# Altium schematic symbol library usomiq-audio.SchLib: 13 symbols
Pins are listed as number, name and electrical type; pins without a type are passive.

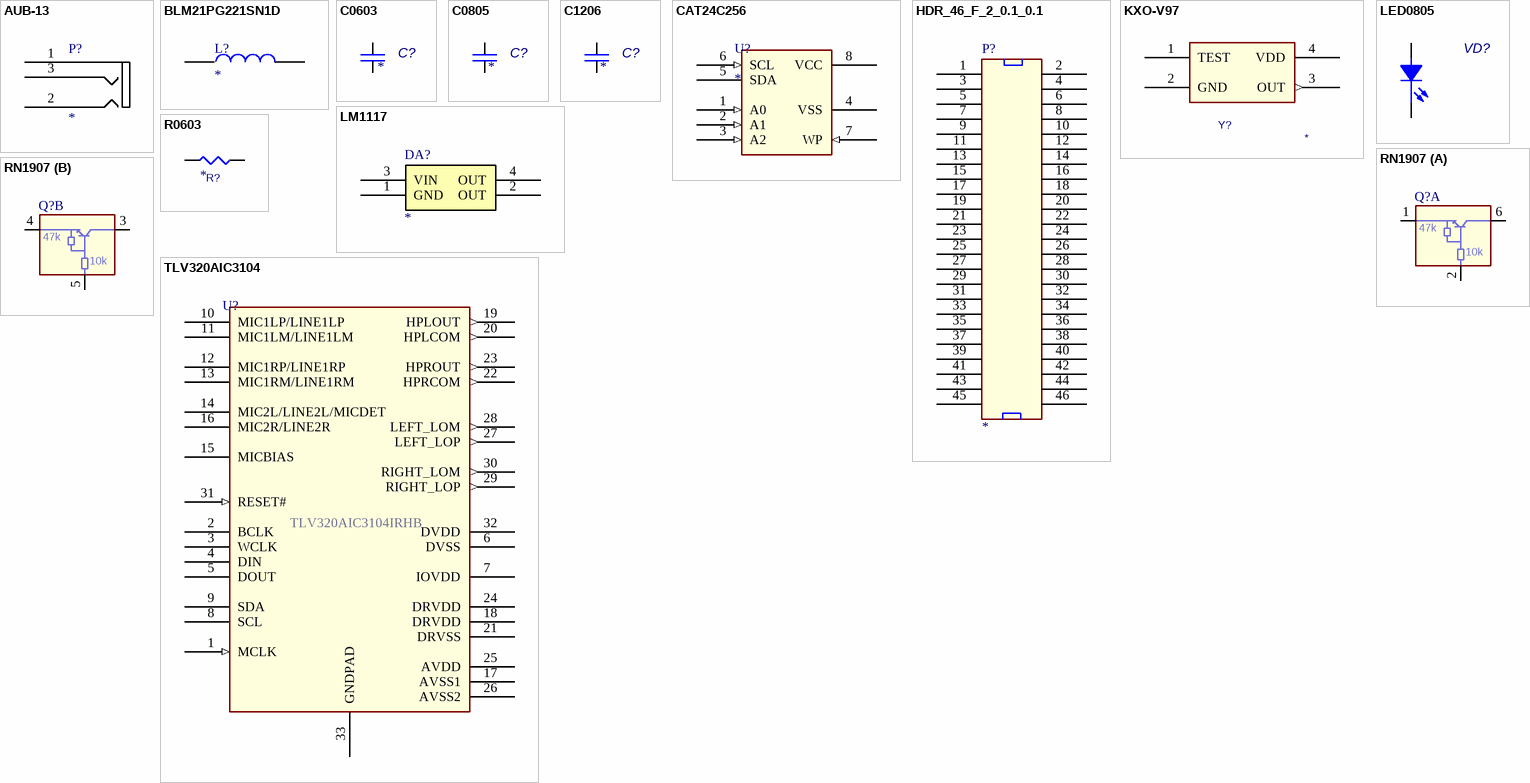
[diagram p0: symbols AUB-13 to TLV320AIC3104]

## AUB-13
designator P?
Audio connector mini-jack 3.5mm, 3 pins; Vendor: brownbear.ru
footprint AUB_13 (3.5mm audio jack, PTH on pcb, 3 contacts)
pins: 1 GND, 2 RIGHT, 3 LEFT

## BLM21PG221SN1D
designator L?
BLM21PG221SN1D; Manufacturer: Murata; Man P/N: BLM21PG221SN1D
footprint Chip2PinSM127P600-8N
pins: 1, 2

## C0603
designator C?
C0603; P/N: *; Value: *
footprint CC1608-0603 (Chip Capacitor, 2-Leads, Body 1,6x0,8mm, IPC Medium Density)
pins: 1, 2

## C0805
designator C?
C0805; P/N: *; Value: *
footprint CC2012-0805 (Chip Capacitor, 2-Leads, Body 2,0x1,25mm, IPC Medium Density)
pins: 1, 2

## C1206
designator C?
C1206; P/N: *; Value: *
footprint CC3216-1206 (Chip Capacitor, 2-Leads, Body 3,2x1,6mm, IPC Medium Density)
pins: 1, 2

## CAT24C256
designator U?
256 kb I2C CMOS Serial  EEPROM; Manufacturer: ON Semiconductor; Man P/N: CAT24C256WI-GT3
footprint SOIC127P600X173-8L (SOIC, 8-Leads, Body 5,0x4,0mm (max), Pitch 1,27mm, IPC High Density)
pins: 1 A0 (in), 2 A1 (in), 3 A2 (in), 4 VSS, 5 SDA, 6 SCL (in), 7 WP (in), 8 VCC

## HDR_46_F_2_0.1_0.1
designator P?
NN HEADER FMAL 46PS.1" DL GOLD; Mfr: major league electronics; P/N: SSHS-123-D-02-GT-LF
footprint DIP46
pins: 1, 2 26, 3 2, 4 27, 5 3, 6 28, 7 4, 8 29, 9 5, 10 30, 11 6, 12 31, 13 7, 14 32, 15 8, 16 33, 17 9, 18 34, 19 10, 20 35, 21 11, 22 36, 23 12, 24 37, 25 13, 26 38, 27 14, 28 39, 29 15, 30 40, 31 16, 32 41, 33 17, 34 42, 35 18, 36 43, 37 19, 38 44, 39 20, 40 45, 41 21, 42 46, 43 22, 44 47, 45 23, 46 48

## KXO-V97
designator Y?
Quartz oscillator 7x5mm; Manufacturer: Geyer; Man P/N: KXO-V97; Value: *
footprint KXO_V97
pins: 1 TEST, 2 GND (power), 3 OUT (out), 4 VDD (power)

## LED0805
designator VD?  (value not drawn)
LED 0805; Value: *
footprint LED0805 (Chip LED, 2-Leads, Body 2,0x1,3mm, IPC Medium Density)
pins: 1 A, 2 C

## LM1117
designator DA?
800mA Low-Dropout Linear Regulator; Manufacturer: National; Man P/N: LM1117IMPX-3.3; Package: 3-lead  SOT-223
footprint SOT230P700X160-4N (SOT223, 4-Leads, Body 6,7x7,3mm (max), Pitch 2,30mm, IPC Medium Density)
pins: 1 GND (power), 2 OUT (power), 3 VIN (power), 4 OUT (power)

## R0603
designator R?
R0603; P/N: *; Value: *
footprint RESC1608X55N (Chip Resistor, EIA 0603, Metric 1608, Body 1.6x0.8mm, IPC Medium Density)
pins: 1, 2

## RN1907
designator Q?  (value not drawn)
Transistor Silicon NPN; Mfr: Panasonic; P/N: DMC564040R
footprint SOT363-6L (SOT363, 6-Leads, Body 2x1.3mm, Pitch 0.65mm, Lead Span 2.1mm, IPC High Density)
part A pins: 1 4, 2 5, 6 3
part B pins: 3, 4, 5
part A text: 47k; 10k
part B text: 47k; 10k

## TLV320AIC3104
designator U?  Man P/N: TLV320AIC3104IRHB  (hidden comment: *)
LOW-POWER STEREO AUDIO CODEC FOR PORTABLE AUDIO/TELEPHONY; Manufacturer: TI
footprint QFN32 (32-Pin Quad Flat No-Lead 0.5 mm Pitch, IPC Medium Density)
pins: 1 MCLK (in), 2 BCLK, 3 WCLK, 4 DIN, 5 DOUT, 6 DVSS (power), 7 IOVDD (power), 8 SCL, 9 SDA, 10 MIC1LP/LINE1LP, 11 MIC1LM/LINE1LM, 12 MIC1RP/LINE1RP, 13 MIC1RM/LINE1RM, 14 MIC2L/LINE2L/MICDET, 15 MICBIAS, 16 MIC2R/LINE2R, 17 AVSS1 (power), 18 DRVDD (power), 19 HPLOUT (out), 20 HPLCOM (out), 21 DRVSS (power), 22 HPRCOM (out), 23 HPROUT (out), 24 DRVDD (power), 25 AVDD (power), 26 AVSS2 (power), 27 LEFT_LOP (out), 28 LEFT_LOM (out), 29 RIGHT_LOP (out), 30 RIGHT_LOM (out), 31 RESET# (in), 32 DVDD (power), 33 GNDPAD (power)